# Altium integrated library Analog Devices Data Converters Analog-to-Digital Converters.IntLib: 2400 symbols (part 317 of 338)
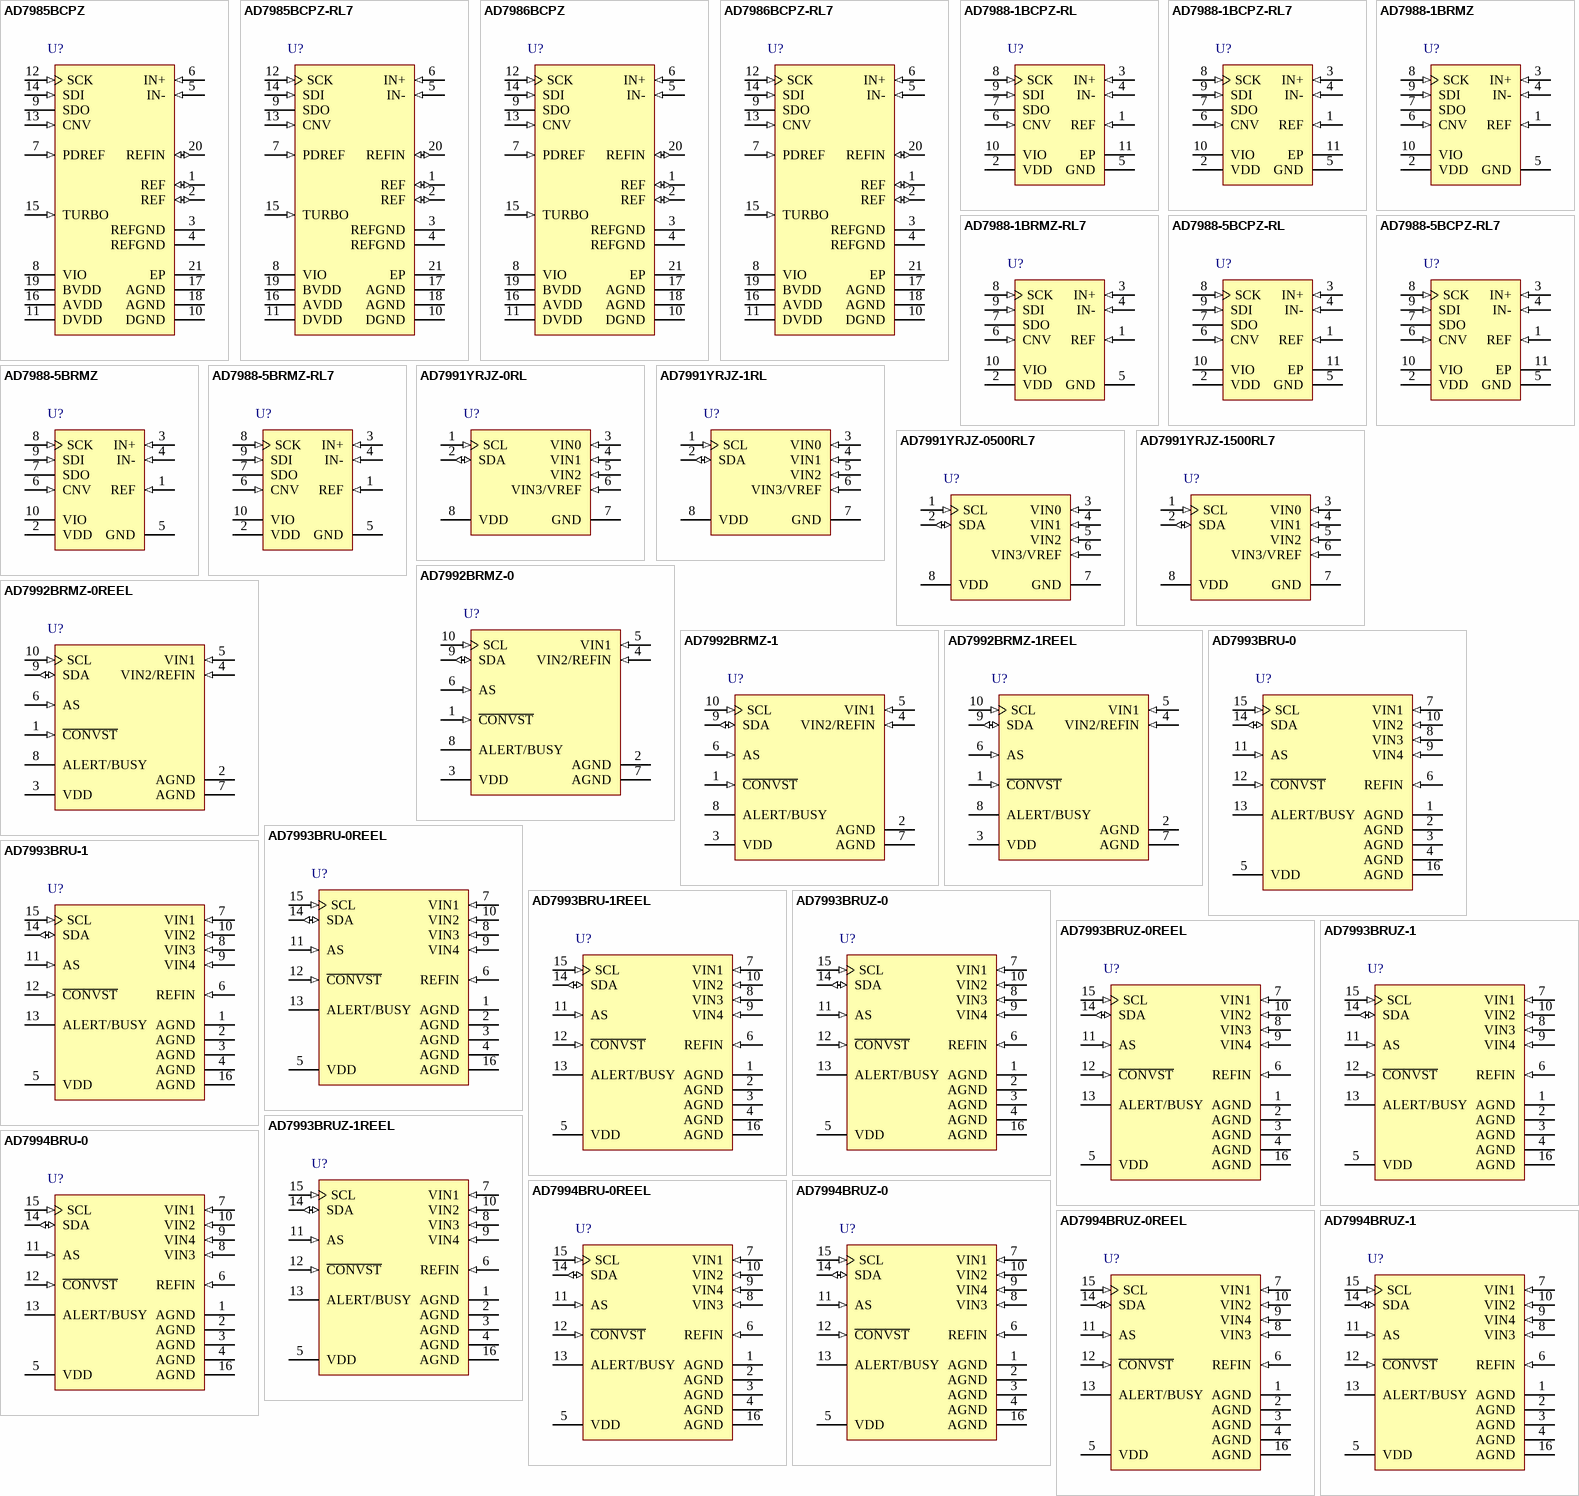
[diagram p328: symbols AD7985BCPZ to AD7994BRUZ-1]

## AD7993BRUZ-1
designator U?
Quad 10-Bit Analog-to-Digital Converter with I2C / Serial 2-Wire, Serial Interface, 188KSPS, -40 to +125 degC, RU-16, Pb-Free, Tube; Part Number: AD7993; Manufacturer: Analog Devices; Resolution (Bits): 10; Channels: 4; Throughput Rate (SPS): 188K; Interface: I2C/Ser 2-Wire, Ser; DatasheetVersion: Rev.0; PackageVersion: Nov-2002; PackageReference: RU-16; PackageDescription: 16-Lead Thin Shrink Small Outline Package [TSSOP]; RoHS: Y; Packing: Tube; Mounting Technology: Surface Mount; Code_JEDEC: MO-153-AB; ComponentLink1Description: Manufacturer URL; ComponentLink1URL: http://www.analog.com/en/index.html; ComponentLink2Description: Datasheet; ComponentLink2URL: http://www.analog.com/static/imported-files/data_sheets/AD7993_7994.pdf; ComponentLink3Description: Package Specification; ComponentLink3URL: http://www.analog.com/static/imported-files/packages/36244347913743854010197452789RU16.pdf; ComponentLink4Description: Product URL; ComponentLink4URL: http://www.analog.com/en/analog-to-digital-converters/ad-converters/ad7993/products/product.html
footprint RU-16_N (TSOP, 16-Leads, Body 5x4.4mm, Pitch 0.65mm, IPC Medium Density)
footprint RU-16_L (TSOP, 16-Leads, Body 5x4.4mm, Pitch 0.65mm, IPC High Density)
footprint RU-16_M (TSOP, 16-Leads, Body 5x4.4mm, Pitch 0.65mm, IPC Low Density)
pins: 1 AGND (power) "Analog Ground. Ground reference point for all circuitry on the AD7993/AD7994. All analog input signals should be referred to this AGND voltage.", 2 AGND (power) "Analog Ground. Ground reference point for all circuitry on the AD7993/AD7994. All analog input signals should be referred to this AGND voltage.", 3 AGND (power) "Analog Ground. Ground reference point for all circuitry on the AD7993/AD7994. All analog input signals should be referred to this AGND voltage.", 4 AGND (power) "Analog Ground. Ground reference point for all circuitry on the AD7993/AD7994. All analog input signals should be referred to this AGND voltage.", 5 VDD (power) "Power Supply Input. The VDD range for the AD7993/AD7994 is from 2.7 V to 5.5 V.", 6 REFIN (in) "Voltage Reference Input. The external reference for the AD7993/AD7994 should be applied to this input pin. The voltage range for the external reference is 1.2 V to VDD. A 0.1 uF and 1 uF capacitor should be placed between (See Datasheet)", 7 VIN1 (in) "Analog Input 1. Single-ended analog input channel. The input range is 0 V to REFIN.", 8 VIN3 (in) "Analog Input 3. Single-ended analog input channel. The input range is 0 V to REFIN.", 9 VIN4 (in) "Analog Input 4. Single-ended analog input channel. The input range is 0 V to REFIN.", 10 VIN2 (in) "Analog Input 2. Single-ended analog input channel. The input range is 0 V to REFIN.", 11 AS (in) "Logic Input. Address select input that selects one of three I2C addresses for the AD7993/AD7994, as shown in Table 6. The device address depends on the voltage applied to this pin.", 12 ~{CONVST} (in) "Logic Input Signal/Convert Start Signal. This is an edge-triggered logic input. The rising edge of this signal powers up the part. The power-up time for the part is 1 us. The falling edge of C\O\N\V\S\T\ places the (See Datasheet)", 13 ALERT/BUSY (oc) "Digital Output, Selectable as an ALERT or BUSY Output Function. When configured as an ALERT, this pin acts as an out-of-range indicator and, if enabled, becomes active when the conversion result violates the DATAHIGH or (See Datasheet)", 14 SDA (io) "Digital I/O. Serial bus bidirectional data. Open-drain output. External pull-up resistor required.", 15 SCL (in) "Digital Input. Serial bus clock. External pull-up resistor required.", 16 AGND (power) "Analog Ground. Ground reference point for all circuitry on the AD7993/AD7994. All analog input signals should be referred to this AGND voltage."

## AD7993BRUZ-1REEL
designator U?
Quad 10-Bit Analog-to-Digital Converter with I2C / Serial 2-Wire, Serial Interface, 188KSPS, -40 to +125 degC, RU-16, Pb-Free, Reel; Part Number: AD7993; Manufacturer: Analog Devices; Resolution (Bits): 10; Channels: 4; Throughput Rate (SPS): 188K; Interface: I2C/Ser 2-Wire, Ser; DatasheetVersion: Rev.0; PackageVersion: Nov-2002; PackageReference: RU-16; PackageDescription: 16-Lead Thin Shrink Small Outline Package [TSSOP]; RoHS: Y; Packing: Reel; Mounting Technology: Surface Mount; Code_JEDEC: MO-153-AB; ComponentLink1Description: Manufacturer URL; ComponentLink1URL: http://www.analog.com/en/index.html; ComponentLink2Description: Datasheet; ComponentLink2URL: http://www.analog.com/static/imported-files/data_sheets/AD7993_7994.pdf; ComponentLink3Description: Package Specification; ComponentLink3URL: http://www.analog.com/static/imported-files/packages/36244347913743854010197452789RU16.pdf; ComponentLink4Description: Product URL; ComponentLink4URL: http://www.analog.com/en/analog-to-digital-converters/ad-converters/ad7993/products/product.html
footprint RU-16_N (TSOP, 16-Leads, Body 5x4.4mm, Pitch 0.65mm, IPC Medium Density)
footprint RU-16_L (TSOP, 16-Leads, Body 5x4.4mm, Pitch 0.65mm, IPC High Density)
footprint RU-16_M (TSOP, 16-Leads, Body 5x4.4mm, Pitch 0.65mm, IPC Low Density)
pins: 1 AGND (power) "Analog Ground. Ground reference point for all circuitry on the AD7993/AD7994. All analog input signals should be referred to this AGND voltage.", 2 AGND (power) "Analog Ground. Ground reference point for all circuitry on the AD7993/AD7994. All analog input signals should be referred to this AGND voltage.", 3 AGND (power) "Analog Ground. Ground reference point for all circuitry on the AD7993/AD7994. All analog input signals should be referred to this AGND voltage.", 4 AGND (power) "Analog Ground. Ground reference point for all circuitry on the AD7993/AD7994. All analog input signals should be referred to this AGND voltage.", 5 VDD (power) "Power Supply Input. The VDD range for the AD7993/AD7994 is from 2.7 V to 5.5 V.", 6 REFIN (in) "Voltage Reference Input. The external reference for the AD7993/AD7994 should be applied to this input pin. The voltage range for the external reference is 1.2 V to VDD. A 0.1 uF and 1 uF capacitor should be placed between (See Datasheet)", 7 VIN1 (in) "Analog Input 1. Single-ended analog input channel. The input range is 0 V to REFIN.", 8 VIN3 (in) "Analog Input 3. Single-ended analog input channel. The input range is 0 V to REFIN.", 9 VIN4 (in) "Analog Input 4. Single-ended analog input channel. The input range is 0 V to REFIN.", 10 VIN2 (in) "Analog Input 2. Single-ended analog input channel. The input range is 0 V to REFIN.", 11 AS (in) "Logic Input. Address select input that selects one of three I2C addresses for the AD7993/AD7994, as shown in Table 6. The device address depends on the voltage applied to this pin.", 12 ~{CONVST} (in) "Logic Input Signal/Convert Start Signal. This is an edge-triggered logic input. The rising edge of this signal powers up the part. The power-up time for the part is 1 us. The falling edge of C\O\N\V\S\T\ places the (See Datasheet)", 13 ALERT/BUSY (oc) "Digital Output, Selectable as an ALERT or BUSY Output Function. When configured as an ALERT, this pin acts as an out-of-range indicator and, if enabled, becomes active when the conversion result violates the DATAHIGH or (See Datasheet)", 14 SDA (io) "Digital I/O. Serial bus bidirectional data. Open-drain output. External pull-up resistor required.", 15 SCL (in) "Digital Input. Serial bus clock. External pull-up resistor required.", 16 AGND (power) "Analog Ground. Ground reference point for all circuitry on the AD7993/AD7994. All analog input signals should be referred to this AGND voltage."

## AD7994BRU-0
designator U?
Quad 12-Bit Analog-to-Digital Converter with I2C/Serial 2-Wire, Serial Interface, 188KSPS, -40 to +125 degC, RU-16, Tube; Part Number: AD7994; Manufacturer: Analog Devices; Resolution (Bits): 12; Channels: 4; Throughput Rate (SPS): 188K; Interface: I2C/Ser 2-Wire, Ser; DatasheetVersion: Rev.0; PackageVersion: Nov-2002; PackageReference: RU-16; PackageDescription: 16-Lead Thin Shrink Small Outline Package [TSSOP]; RoHS: N; Packing: Tube; Mounting Technology: Surface Mount; Code_JEDEC: MO-153-AB; ComponentLink1Description: Manufacturer URL; ComponentLink1URL: http://www.analog.com/en/index.html; ComponentLink2Description: Datasheet; ComponentLink2URL: http://www.analog.com/static/imported-files/data_sheets/AD7993_7994.pdf; ComponentLink3Description: Package Specification; ComponentLink3URL: http://www.analog.com/static/imported-files/packages/36244347913743854010197452789RU16.pdf; ComponentLink4Description: Product URL; ComponentLink4URL: http://www.analog.com/en/analog-to-digital-converters/ad-converters/ad7994/products/product.html
footprint RU-16_N (TSOP, 16-Leads, Body 5x4.4mm, Pitch 0.65mm, IPC Medium Density)
footprint RU-16_L (TSOP, 16-Leads, Body 5x4.4mm, Pitch 0.65mm, IPC High Density)
footprint RU-16_M (TSOP, 16-Leads, Body 5x4.4mm, Pitch 0.65mm, IPC Low Density)
pins: 1 AGND (power) "Analog Ground. Ground reference point for all circuitry on the AD7993/AD7994. All analog input signals should be referred to this AGND voltage.", 2 AGND (power) "Analog Ground. Ground reference point for all circuitry on the AD7993/AD7994. All analog input signals should be referred to this AGND voltage.", 3 AGND (power) "Analog Ground. Ground reference point for all circuitry on the AD7993/AD7994. All analog input signals should be referred to this AGND voltage.", 4 AGND (power) "Analog Ground. Ground reference point for all circuitry on the AD7993/AD7994. All analog input signals should be referred to this AGND voltage.", 5 VDD (power) "Power Supply Input. The VDD range for the AD7993/AD7994 is from 2.7 V to 5.5 V.", 6 REFIN (in) "Voltage Reference Input. The external reference for the AD7993/AD7994 should be applied to this input pin.  The voltage range for the external reference is 1.2 V to VDD. A 0.1 µF and 1 µF capacitor should be placed  between (See Datasheet)", 7 VIN1 (in) "Analog Input 1. Single-ended analog input channel. The input range is 0 V to REFIN.", 8 VIN3 (in) "Analog Input 3. Single-ended analog input channel. The input range is 0 V to REFIN.", 9 VIN4 (in) "Analog Input 4. Single-ended analog input channel. The input range is 0 V to REFIN.", 10 VIN2 (in) "Analog Input 2. Single-ended analog input channel. The input range is 0 V to REFIN.", 11 AS (in) "Logic Input. Address select input that selects one of three I2C addresses for the AD7993/AD7994, as shown in Table 6. The device address depends on the voltage applied to this pin.", 12 ~{CONVST} (in) "Logic Input Signal/Convert Start Signal. This is an edge-triggered logic input. The rising edge of this signal powers up the part. The power-up time for the part is 1 us. The falling edge of C\O\N\V\S\T\ places the (See Datasheet)", 13 ALERT/BUSY (oc) "Digital Output, Selectable as an ALERT or BUSY Output Function. When configured as an ALERT, this pin acts as an out-of-range indicator and, if enabled, becomes active when the conversion result violates the DATAHIGH or (See Datasheet)", 14 SDA (io) "Digital I/O. Serial bus bidirectional data. Open-drain output. External pull-up resistor required.", 15 SCL (in) "Digital Input. Serial bus clock. External pull-up resistor required.", 16 AGND (power) "Analog Ground. Ground reference point for all circuitry on the AD7993/AD7994. All analog input signals should be referred to this AGND voltage."

## AD7994BRU-0REEL
designator U?
Quad 12-Bit Analog-to-Digital Converter with I2C/Serial 2-Wire, Serial Interface, 188KSPS, -40 to +125 degC, RU-16, Reel; Part Number: AD7994; Manufacturer: Analog Devices; Resolution (Bits): 12; Channels: 4; Throughput Rate (SPS): 188K; Interface: I2C/Ser 2-Wire, Ser; DatasheetVersion: Rev.0; PackageVersion: Nov-2002; PackageReference: RU-16; PackageDescription: 16-Lead Thin Shrink Small Outline Package [TSSOP]; RoHS: N; Packing: Reel; Mounting Technology: Surface Mount; Code_JEDEC: MO-153-AB; ComponentLink1Description: Manufacturer URL; ComponentLink1URL: http://www.analog.com/en/index.html; ComponentLink2Description: Datasheet; ComponentLink2URL: http://www.analog.com/static/imported-files/data_sheets/AD7993_7994.pdf; ComponentLink3Description: Package Specification; ComponentLink3URL: http://www.analog.com/static/imported-files/packages/36244347913743854010197452789RU16.pdf; ComponentLink4Description: Product URL; ComponentLink4URL: http://www.analog.com/en/analog-to-digital-converters/ad-converters/ad7994/products/product.html
footprint RU-16_N (TSOP, 16-Leads, Body 5x4.4mm, Pitch 0.65mm, IPC Medium Density)
footprint RU-16_L (TSOP, 16-Leads, Body 5x4.4mm, Pitch 0.65mm, IPC High Density)
footprint RU-16_M (TSOP, 16-Leads, Body 5x4.4mm, Pitch 0.65mm, IPC Low Density)
pins: 1 AGND (power) "Analog Ground. Ground reference point for all circuitry on the AD7993/AD7994. All analog input signals should be referred to this AGND voltage.", 2 AGND (power) "Analog Ground. Ground reference point for all circuitry on the AD7993/AD7994. All analog input signals should be referred to this AGND voltage.", 3 AGND (power) "Analog Ground. Ground reference point for all circuitry on the AD7993/AD7994. All analog input signals should be referred to this AGND voltage.", 4 AGND (power) "Analog Ground. Ground reference point for all circuitry on the AD7993/AD7994. All analog input signals should be referred to this AGND voltage.", 5 VDD (power) "Power Supply Input. The VDD range for the AD7993/AD7994 is from 2.7 V to 5.5 V.", 6 REFIN (in) "Voltage Reference Input. The external reference for the AD7993/AD7994 should be applied to this input pin.  The voltage range for the external reference is 1.2 V to VDD. A 0.1 µF and 1 µF capacitor should be placed  between (See Datasheet)", 7 VIN1 (in) "Analog Input 1. Single-ended analog input channel. The input range is 0 V to REFIN.", 8 VIN3 (in) "Analog Input 3. Single-ended analog input channel. The input range is 0 V to REFIN.", 9 VIN4 (in) "Analog Input 4. Single-ended analog input channel. The input range is 0 V to REFIN.", 10 VIN2 (in) "Analog Input 2. Single-ended analog input channel. The input range is 0 V to REFIN.", 11 AS (in) "Logic Input. Address select input that selects one of three I2C addresses for the AD7993/AD7994, as shown in Table 6. The device address depends on the voltage applied to this pin.", 12 ~{CONVST} (in) "Logic Input Signal/Convert Start Signal. This is an edge-triggered logic input. The rising edge of this signal powers up the part. The power-up time for the part is 1 us. The falling edge of C\O\N\V\S\T\ places the (See Datasheet)", 13 ALERT/BUSY (oc) "Digital Output, Selectable as an ALERT or BUSY Output Function. When configured as an ALERT, this pin acts as an out-of-range indicator and, if enabled, becomes active when the conversion result violates the DATAHIGH or (See Datasheet)", 14 SDA (io) "Digital I/O. Serial bus bidirectional data. Open-drain output. External pull-up resistor required.", 15 SCL (in) "Digital Input. Serial bus clock. External pull-up resistor required.", 16 AGND (power) "Analog Ground. Ground reference point for all circuitry on the AD7993/AD7994. All analog input signals should be referred to this AGND voltage."

## AD7994BRUZ-0
designator U?
Quad 12-Bit Analog-to-Digital Converter with I2C/Serial 2-Wire, Serial Interface, 188KSPS, -40 to +125 degC, RU-16, Pb-Free, Tube; Part Number: AD7994; Manufacturer: Analog Devices; Resolution (Bits): 12; Channels: 4; Throughput Rate (SPS): 188K; Interface: I2C/Ser 2-Wire, Ser; DatasheetVersion: Rev.0; PackageVersion: Nov-2002; PackageReference: RU-16; PackageDescription: 16-Lead Thin Shrink Small Outline Package [TSSOP]; RoHS: Y; Packing: Tube; Mounting Technology: Surface Mount; Code_JEDEC: MO-153-AB; ComponentLink1Description: Manufacturer URL; ComponentLink1URL: http://www.analog.com/en/index.html; ComponentLink2Description: Datasheet; ComponentLink2URL: http://www.analog.com/static/imported-files/data_sheets/AD7993_7994.pdf; ComponentLink3Description: Package Specification; ComponentLink3URL: http://www.analog.com/static/imported-files/packages/36244347913743854010197452789RU16.pdf; ComponentLink4Description: Product URL; ComponentLink4URL: http://www.analog.com/en/analog-to-digital-converters/ad-converters/ad7994/products/product.html
footprint RU-16_N (TSOP, 16-Leads, Body 5x4.4mm, Pitch 0.65mm, IPC Medium Density)
footprint RU-16_L (TSOP, 16-Leads, Body 5x4.4mm, Pitch 0.65mm, IPC High Density)
footprint RU-16_M (TSOP, 16-Leads, Body 5x4.4mm, Pitch 0.65mm, IPC Low Density)
pins: 1 AGND (power) "Analog Ground. Ground reference point for all circuitry on the AD7993/AD7994. All analog input signals should be referred to this AGND voltage.", 2 AGND (power) "Analog Ground. Ground reference point for all circuitry on the AD7993/AD7994. All analog input signals should be referred to this AGND voltage.", 3 AGND (power) "Analog Ground. Ground reference point for all circuitry on the AD7993/AD7994. All analog input signals should be referred to this AGND voltage.", 4 AGND (power) "Analog Ground. Ground reference point for all circuitry on the AD7993/AD7994. All analog input signals should be referred to this AGND voltage.", 5 VDD (power) "Power Supply Input. The VDD range for the AD7993/AD7994 is from 2.7 V to 5.5 V.", 6 REFIN (in) "Voltage Reference Input. The external reference for the AD7993/AD7994 should be applied to this input pin.  The voltage range for the external reference is 1.2 V to VDD. A 0.1 µF and 1 µF capacitor should be placed  between (See Datasheet)", 7 VIN1 (in) "Analog Input 1. Single-ended analog input channel. The input range is 0 V to REFIN.", 8 VIN3 (in) "Analog Input 3. Single-ended analog input channel. The input range is 0 V to REFIN.", 9 VIN4 (in) "Analog Input 4. Single-ended analog input channel. The input range is 0 V to REFIN.", 10 VIN2 (in) "Analog Input 2. Single-ended analog input channel. The input range is 0 V to REFIN.", 11 AS (in) "Logic Input. Address select input that selects one of three I2C addresses for the AD7993/AD7994, as shown in Table 6. The device address depends on the voltage applied to this pin.", 12 ~{CONVST} (in) "Logic Input Signal/Convert Start Signal. This is an edge-triggered logic input. The rising edge of this signal powers up the part. The power-up time for the part is 1 us. The falling edge of C\O\N\V\S\T\ places the (See Datasheet)", 13 ALERT/BUSY (oc) "Digital Output, Selectable as an ALERT or BUSY Output Function. When configured as an ALERT, this pin acts as an out-of-range indicator and, if enabled, becomes active when the conversion result violates the DATAHIGH or (See Datasheet)", 14 SDA (io) "Digital I/O. Serial bus bidirectional data. Open-drain output. External pull-up resistor required.", 15 SCL (in) "Digital Input. Serial bus clock. External pull-up resistor required.", 16 AGND (power) "Analog Ground. Ground reference point for all circuitry on the AD7993/AD7994. All analog input signals should be referred to this AGND voltage."

## AD7994BRUZ-0REEL
designator U?
Quad 12-Bit Analog-to-Digital Converter with I2C/Serial 2-Wire, Serial Interface, 188KSPS, -40 to +125 degC, RU-16, Pb-Free, Reel; Part Number: AD7994; Manufacturer: Analog Devices; Resolution (Bits): 12; Channels: 4; Throughput Rate (SPS): 188K; Interface: I2C/Ser 2-Wire, Ser; DatasheetVersion: Rev.0; PackageVersion: Nov-2002; PackageReference: RU-16; PackageDescription: 16-Lead Thin Shrink Small Outline Package [TSSOP]; RoHS: Y; Packing: Reel; Mounting Technology: Surface Mount; Code_JEDEC: MO-153-AB; ComponentLink1Description: Manufacturer URL; ComponentLink1URL: http://www.analog.com/en/index.html; ComponentLink2Description: Datasheet; ComponentLink2URL: http://www.analog.com/static/imported-files/data_sheets/AD7993_7994.pdf; ComponentLink3Description: Package Specification; ComponentLink3URL: http://www.analog.com/static/imported-files/packages/36244347913743854010197452789RU16.pdf; ComponentLink4Description: Product URL; ComponentLink4URL: http://www.analog.com/en/analog-to-digital-converters/ad-converters/ad7994/products/product.html
footprint RU-16_N (TSOP, 16-Leads, Body 5x4.4mm, Pitch 0.65mm, IPC Medium Density)
footprint RU-16_L (TSOP, 16-Leads, Body 5x4.4mm, Pitch 0.65mm, IPC High Density)
footprint RU-16_M (TSOP, 16-Leads, Body 5x4.4mm, Pitch 0.65mm, IPC Low Density)
pins: 1 AGND (power) "Analog Ground. Ground reference point for all circuitry on the AD7993/AD7994. All analog input signals should be referred to this AGND voltage.", 2 AGND (power) "Analog Ground. Ground reference point for all circuitry on the AD7993/AD7994. All analog input signals should be referred to this AGND voltage.", 3 AGND (power) "Analog Ground. Ground reference point for all circuitry on the AD7993/AD7994. All analog input signals should be referred to this AGND voltage.", 4 AGND (power) "Analog Ground. Ground reference point for all circuitry on the AD7993/AD7994. All analog input signals should be referred to this AGND voltage.", 5 VDD (power) "Power Supply Input. The VDD range for the AD7993/AD7994 is from 2.7 V to 5.5 V.", 6 REFIN (in) "Voltage Reference Input. The external reference for the AD7993/AD7994 should be applied to this input pin.  The voltage range for the external reference is 1.2 V to VDD. A 0.1 µF and 1 µF capacitor should be placed  between (See Datasheet)", 7 VIN1 (in) "Analog Input 1. Single-ended analog input channel. The input range is 0 V to REFIN.", 8 VIN3 (in) "Analog Input 3. Single-ended analog input channel. The input range is 0 V to REFIN.", 9 VIN4 (in) "Analog Input 4. Single-ended analog input channel. The input range is 0 V to REFIN.", 10 VIN2 (in) "Analog Input 2. Single-ended analog input channel. The input range is 0 V to REFIN.", 11 AS (in) "Logic Input. Address select input that selects one of three I2C addresses for the AD7993/AD7994, as shown in Table 6. The device address depends on the voltage applied to this pin.", 12 ~{CONVST} (in) "Logic Input Signal/Convert Start Signal. This is an edge-triggered logic input. The rising edge of this signal powers up the part. The power-up time for the part is 1 us. The falling edge of C\O\N\V\S\T\ places the (See Datasheet)", 13 ALERT/BUSY (oc) "Digital Output, Selectable as an ALERT or BUSY Output Function. When configured as an ALERT, this pin acts as an out-of-range indicator and, if enabled, becomes active when the conversion result violates the DATAHIGH or (See Datasheet)", 14 SDA (io) "Digital I/O. Serial bus bidirectional data. Open-drain output. External pull-up resistor required.", 15 SCL (in) "Digital Input. Serial bus clock. External pull-up resistor required.", 16 AGND (power) "Analog Ground. Ground reference point for all circuitry on the AD7993/AD7994. All analog input signals should be referred to this AGND voltage."

## AD7994BRUZ-1
designator U?
Quad 12-Bit Analog-to-Digital Converter with I2C/Serial 2-Wire, Serial Interface, 188KSPS, -40 to +125 degC, RU-16, Pb-Free, Tube; Part Number: AD7994; Manufacturer: Analog Devices; Resolution (Bits): 12; Channels: 4; Throughput Rate (SPS): 188K; Interface: I2C/Ser 2-Wire, Ser; DatasheetVersion: Rev.0; PackageVersion: Nov-2002; PackageReference: RU-16; PackageDescription: 16-Lead Thin Shrink Small Outline Package [TSSOP]; RoHS: Y; Packing: Tube; Mounting Technology: Surface Mount; Code_JEDEC: MO-153-AB; ComponentLink1Description: Manufacturer URL; ComponentLink1URL: http://www.analog.com/en/index.html; ComponentLink2Description: Datasheet; ComponentLink2URL: http://www.analog.com/static/imported-files/data_sheets/AD7993_7994.pdf; ComponentLink3Description: Package Specification; ComponentLink3URL: http://www.analog.com/static/imported-files/packages/36244347913743854010197452789RU16.pdf; ComponentLink4Description: Product URL; ComponentLink4URL: http://www.analog.com/en/analog-to-digital-converters/ad-converters/ad7994/products/product.html
footprint RU-16_N (TSOP, 16-Leads, Body 5x4.4mm, Pitch 0.65mm, IPC Medium Density)
footprint RU-16_L (TSOP, 16-Leads, Body 5x4.4mm, Pitch 0.65mm, IPC High Density)
footprint RU-16_M (TSOP, 16-Leads, Body 5x4.4mm, Pitch 0.65mm, IPC Low Density)
pins: 1 AGND (power) "Analog Ground. Ground reference point for all circuitry on the AD7993/AD7994. All analog input signals should be referred to this AGND voltage.", 2 AGND (power) "Analog Ground. Ground reference point for all circuitry on the AD7993/AD7994. All analog input signals should be referred to this AGND voltage.", 3 AGND (power) "Analog Ground. Ground reference point for all circuitry on the AD7993/AD7994. All analog input signals should be referred to this AGND voltage.", 4 AGND (power) "Analog Ground. Ground reference point for all circuitry on the AD7993/AD7994. All analog input signals should be referred to this AGND voltage.", 5 VDD (power) "Power Supply Input. The VDD range for the AD7993/AD7994 is from 2.7 V to 5.5 V.", 6 REFIN (in) "Voltage Reference Input. The external reference for the AD7993/AD7994 should be applied to this input pin.  The voltage range for the external reference is 1.2 V to VDD. A 0.1 µF and 1 µF capacitor should be placed  between (See Datasheet)", 7 VIN1 (in) "Analog Input 1. Single-ended analog input channel. The input range is 0 V to REFIN.", 8 VIN3 (in) "Analog Input 3. Single-ended analog input channel. The input range is 0 V to REFIN.", 9 VIN4 (in) "Analog Input 4. Single-ended analog input channel. The input range is 0 V to REFIN.", 10 VIN2 (in) "Analog Input 2. Single-ended analog input channel. The input range is 0 V to REFIN.", 11 AS (in) "Logic Input. Address select input that selects one of three I2C addresses for the AD7993/AD7994, as shown in Table 6. The device address depends on the voltage applied to this pin.", 12 ~{CONVST} (in) "Logic Input Signal/Convert Start Signal. This is an edge-triggered logic input. The rising edge of this signal powers up the part. The power-up time for the part is 1 us. The falling edge of C\O\N\V\S\T\ places the (See Datasheet)", 13 ALERT/BUSY (oc) "Digital Output, Selectable as an ALERT or BUSY Output Function. When configured as an ALERT, this pin acts as an out-of-range indicator and, if enabled, becomes active when the conversion result violates the DATAHIGH or (See Datasheet)", 14 SDA (io) "Digital I/O. Serial bus bidirectional data. Open-drain output. External pull-up resistor required.", 15 SCL (in) "Digital Input. Serial bus clock. External pull-up resistor required.", 16 AGND (power) "Analog Ground. Ground reference point for all circuitry on the AD7993/AD7994. All analog input signals should be referred to this AGND voltage."

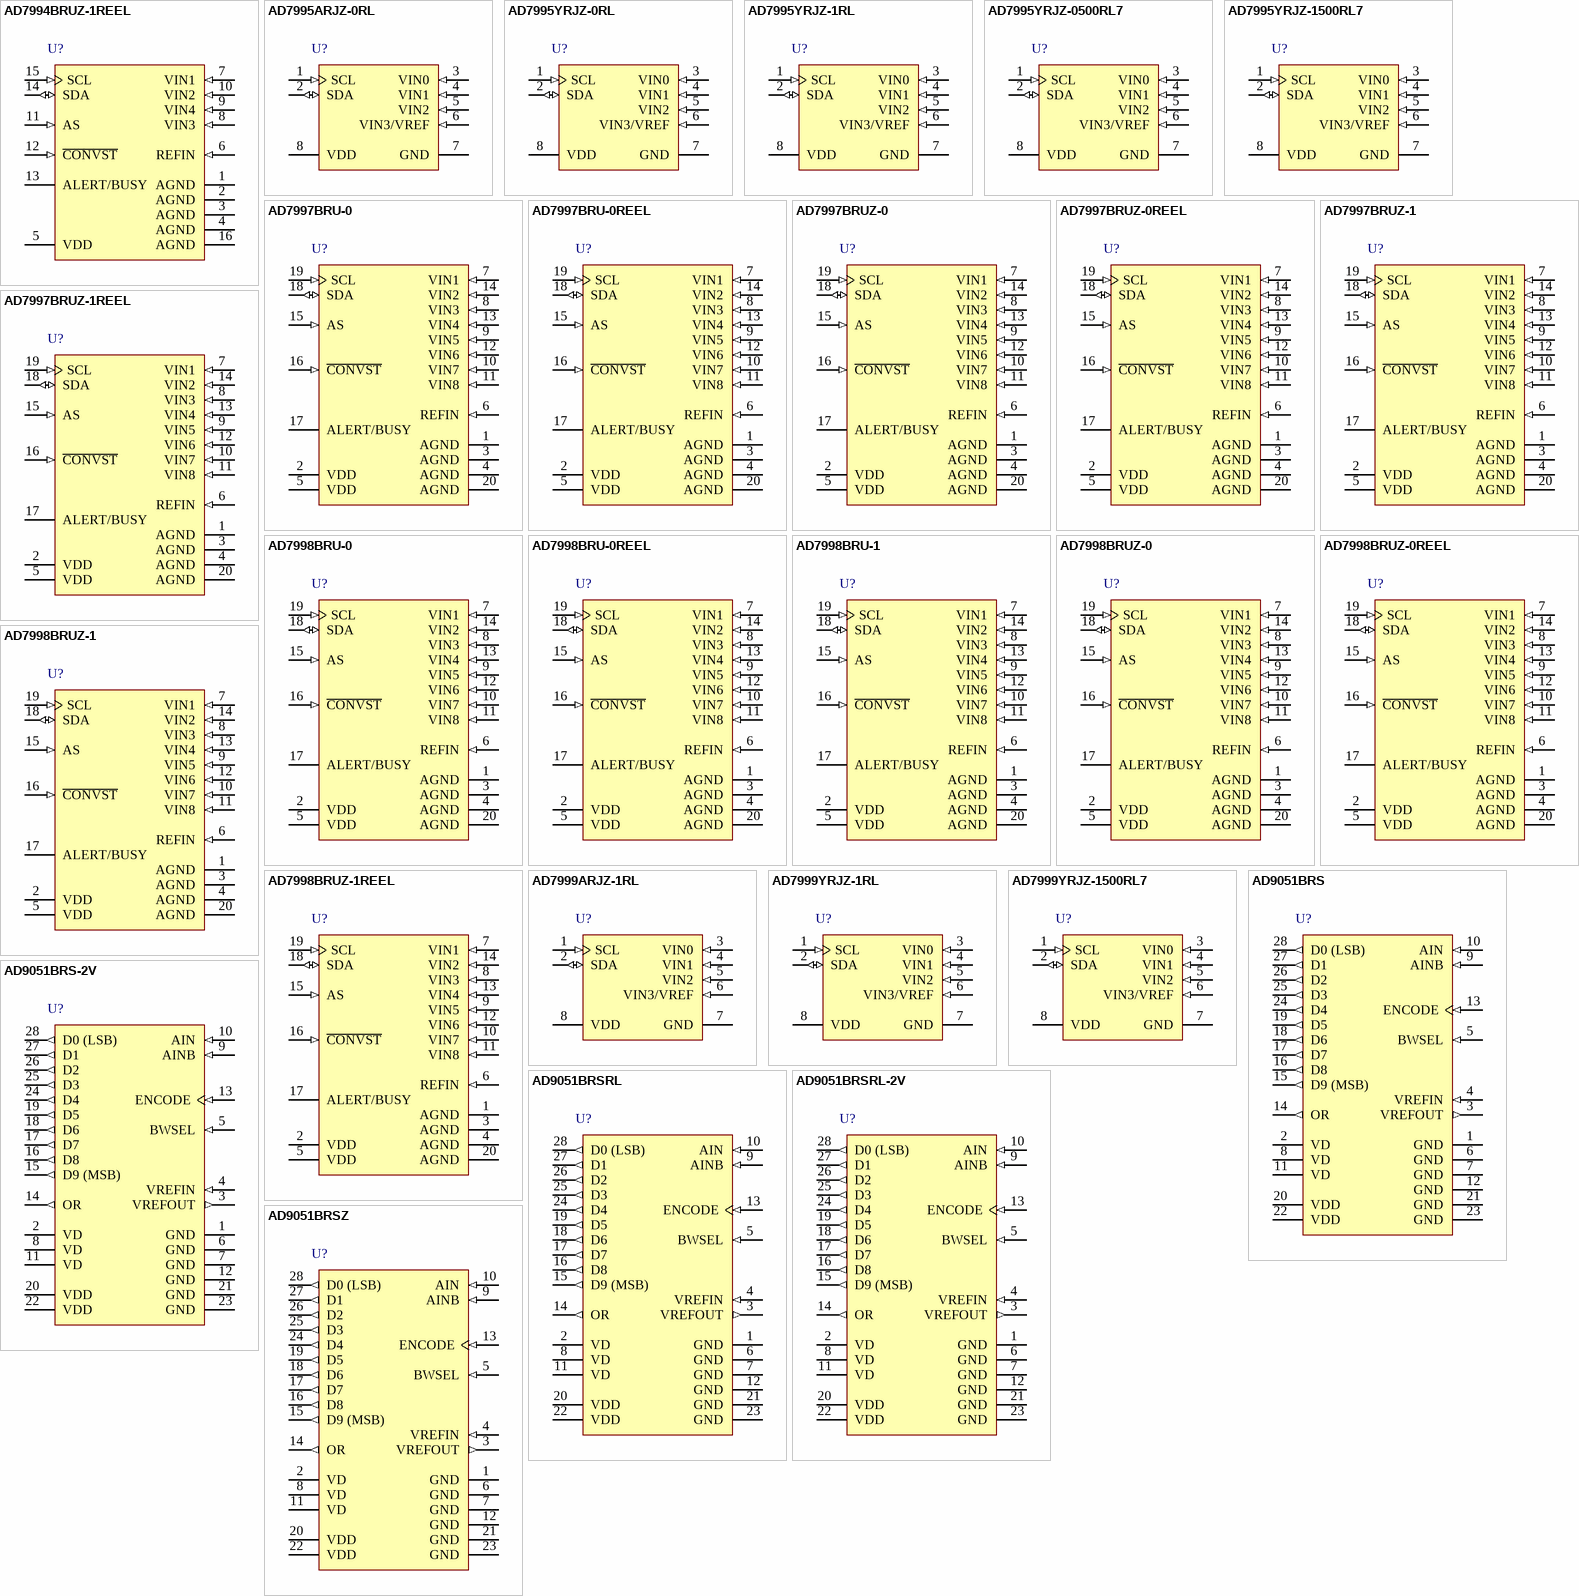
[diagram p95: symbols AD7994BRUZ-1REEL to AD9051BRSZ]

## AD7994BRUZ-1REEL
designator U?
Quad 12-Bit Analog-to-Digital Converter with I2C/Serial 2-Wire, Serial Interface, 188KSPS, -40 to +125 degC, RU-16, Pb-Free, Reel; Part Number: AD7994; Manufacturer: Analog Devices; Resolution (Bits): 12; Channels: 4; Throughput Rate (SPS): 188K; Interface: I2C/Ser 2-Wire, Ser; DatasheetVersion: Rev.0; PackageVersion: Nov-2002; PackageReference: RU-16; PackageDescription: 16-Lead Thin Shrink Small Outline Package [TSSOP]; RoHS: Y; Packing: Reel; Mounting Technology: Surface Mount; Code_JEDEC: MO-153-AB; ComponentLink1Description: Manufacturer URL; ComponentLink1URL: http://www.analog.com/en/index.html; ComponentLink2Description: Datasheet; ComponentLink2URL: http://www.analog.com/static/imported-files/data_sheets/AD7993_7994.pdf; ComponentLink3Description: Package Specification; ComponentLink3URL: http://www.analog.com/static/imported-files/packages/36244347913743854010197452789RU16.pdf; ComponentLink4Description: Product URL; ComponentLink4URL: http://www.analog.com/en/analog-to-digital-converters/ad-converters/ad7994/products/product.html
footprint RU-16_N (TSOP, 16-Leads, Body 5x4.4mm, Pitch 0.65mm, IPC Medium Density)
footprint RU-16_L (TSOP, 16-Leads, Body 5x4.4mm, Pitch 0.65mm, IPC High Density)
footprint RU-16_M (TSOP, 16-Leads, Body 5x4.4mm, Pitch 0.65mm, IPC Low Density)
pins: 1 AGND (power) "Analog Ground. Ground reference point for all circuitry on the AD7993/AD7994. All analog input signals should be referred to this AGND voltage.", 2 AGND (power) "Analog Ground. Ground reference point for all circuitry on the AD7993/AD7994. All analog input signals should be referred to this AGND voltage.", 3 AGND (power) "Analog Ground. Ground reference point for all circuitry on the AD7993/AD7994. All analog input signals should be referred to this AGND voltage.", 4 AGND (power) "Analog Ground. Ground reference point for all circuitry on the AD7993/AD7994. All analog input signals should be referred to this AGND voltage.", 5 VDD (power) "Power Supply Input. The VDD range for the AD7993/AD7994 is from 2.7 V to 5.5 V.", 6 REFIN (in) "Voltage Reference Input. The external reference for the AD7993/AD7994 should be applied to this input pin.  The voltage range for the external reference is 1.2 V to VDD. A 0.1 µF and 1 µF capacitor should be placed  between (See Datasheet)", 7 VIN1 (in) "Analog Input 1. Single-ended analog input channel. The input range is 0 V to REFIN.", 8 VIN3 (in) "Analog Input 3. Single-ended analog input channel. The input range is 0 V to REFIN.", 9 VIN4 (in) "Analog Input 4. Single-ended analog input channel. The input range is 0 V to REFIN.", 10 VIN2 (in) "Analog Input 2. Single-ended analog input channel. The input range is 0 V to REFIN.", 11 AS (in) "Logic Input. Address select input that selects one of three I2C addresses for the AD7993/AD7994, as shown in Table 6. The device address depends on the voltage applied to this pin.", 12 ~{CONVST} (in) "Logic Input Signal/Convert Start Signal. This is an edge-triggered logic input. The rising edge of this signal powers up the part. The power-up time for the part is 1 us. The falling edge of C\O\N\V\S\T\ places the (See Datasheet)", 13 ALERT/BUSY (oc) "Digital Output, Selectable as an ALERT or BUSY Output Function. When configured as an ALERT, this pin acts as an out-of-range indicator and, if enabled, becomes active when the conversion result violates the DATAHIGH or (See Datasheet)", 14 SDA (io) "Digital I/O. Serial bus bidirectional data. Open-drain output. External pull-up resistor required.", 15 SCL (in) "Digital Input. Serial bus clock. External pull-up resistor required.", 16 AGND (power) "Analog Ground. Ground reference point for all circuitry on the AD7993/AD7994. All analog input signals should be referred to this AGND voltage."

## AD7995ARJZ-0RL
designator U?
Quad 10-Bit Analog-to-Digital Converter with I2C, Serial 2-Wire Interface, 140KSPS, -40 to +125 degC, RJ-8, Pb-Free, Reel; Part Number: AD7995; Manufacturer: Analog Devices; Resolution (Bits): 10; Channels: 4; Throughput Rate (SPS): 140K; Interface: I2C/Ser 2-Wire; DatasheetVersion: Rev.B; PackageVersion: 121608-A; PackageReference: RJ-8; PackageDescription: 8-Lead Thin Small Outline Transistor Package [SOT-23]; RoHS: Y; Packing: Reel; Mounting Technology: Surface Mount; Code_JEDEC: MO-178-BA; ComponentLink1Description: Manufacturer URL; ComponentLink1URL: http://www.analog.com/en/index.html; ComponentLink2Description: Datasheet; ComponentLink2URL: http://www.analog.com/static/imported-files/data_sheets/AD7991_7995_7999.pdf; ComponentLink3Description: Package Specification; ComponentLink3URL: http://www.analog.com/static/imported-files/packages/PKG_PDF/SOT-23(RJ)/RJ_8.pdf; ComponentLink4Description: Product URL; ComponentLink4URL: http://www.analog.com/en/analog-to-digital-converters/ad-converters/ad7995/products/product.html
footprint RJ-8_N (SOP, 8-Leads, Body 2.9x1.6mm, Pitch 0.65mm, IPC Medium Density)
footprint RJ-8_L (SOP, 8-Leads, Body 2.9x1.6mm, Pitch 0.65mm, IPC High Density)
footprint RJ-8_M (SOP, 8-Leads, Body 2.9x1.6mm, Pitch 0.65mm, IPC Low Density)
pins: 1 SCL (in) "Digital Input. Serial bus clock. External pull-up resistor required.", 2 SDA (io) "Digital I/O. Serial bus bidirectional data. Open-drain output. External pull-up resistor required.", 3 VIN0 (in) "Analog Input 1. Single-ended analog input channel. The input range is 0 V to VREF.", 4 VIN1 (in) "Analog Input 2. Single-ended analog input channel. The input range is 0 V to VREF.", 5 VIN2 (in) "Analog Input 3. Single-ended analog input channel. The input range is 0 V to VREF.", 6 VIN3/VREF (in) "Analog Input 4. Single-ended analog input channel. The input range is 0 V to VREF. Can also be used to input an external VREF signal.", 7 GND (power) "Analog Ground. Ground reference point for all circuitry on the AD7991/AD7995/AD7999. All analog input signals should be referred to this AGND voltage.", 8 VDD (power) "Power Supply Input. The VDD range for the AD7991/AD7995/AD7999 is from 2.7 V to 5.5 V."

## AD7995YRJZ-0RL
designator U?
Quad 10-Bit Analog-to-Digital Converter with I2C, Serial 2-Wire Interface, 140KSPS, -40 to +125 degC, RJ-8, Pb-Free, Reel; Part Number: AD7995; Manufacturer: Analog Devices; Resolution (Bits): 10; Channels: 4; Throughput Rate (SPS): 140K; Interface: I2C/Ser 2-Wire; DatasheetVersion: Rev.B; PackageVersion: 121608-A; PackageReference: RJ-8; PackageDescription: 8-Lead Thin Small Outline Transistor Package [SOT-23]; RoHS: Y; Packing: Reel; Mounting Technology: Surface Mount; Code_JEDEC: MO-178-BA; ComponentLink1Description: Manufacturer URL; ComponentLink1URL: http://www.analog.com/en/index.html; ComponentLink2Description: Datasheet; ComponentLink2URL: http://www.analog.com/static/imported-files/data_sheets/AD7991_7995_7999.pdf; ComponentLink3Description: Package Specification; ComponentLink3URL: http://www.analog.com/static/imported-files/packages/PKG_PDF/SOT-23(RJ)/RJ_8.pdf; ComponentLink4Description: Product URL; ComponentLink4URL: http://www.analog.com/en/analog-to-digital-converters/ad-converters/ad7995/products/product.html
footprint RJ-8_N (SOP, 8-Leads, Body 2.9x1.6mm, Pitch 0.65mm, IPC Medium Density)
footprint RJ-8_L (SOP, 8-Leads, Body 2.9x1.6mm, Pitch 0.65mm, IPC High Density)
footprint RJ-8_M (SOP, 8-Leads, Body 2.9x1.6mm, Pitch 0.65mm, IPC Low Density)
pins: 1 SCL (in) "Digital Input. Serial bus clock. External pull-up resistor required.", 2 SDA (io) "Digital I/O. Serial bus bidirectional data. Open-drain output. External pull-up resistor required.", 3 VIN0 (in) "Analog Input 1. Single-ended analog input channel. The input range is 0 V to VREF.", 4 VIN1 (in) "Analog Input 2. Single-ended analog input channel. The input range is 0 V to VREF.", 5 VIN2 (in) "Analog Input 3. Single-ended analog input channel. The input range is 0 V to VREF.", 6 VIN3/VREF (in) "Analog Input 4. Single-ended analog input channel. The input range is 0 V to VREF. Can also be used to input an external VREF signal.", 7 GND (power) "Analog Ground. Ground reference point for all circuitry on the AD7991/AD7995/AD7999. All analog input signals should be referred to this AGND voltage.", 8 VDD (power) "Power Supply Input. The VDD range for the AD7991/AD7995/AD7999 is from 2.7 V to 5.5 V."

## AD7995YRJZ-1RL
designator U?
Quad 10-Bit Analog-to-Digital Converter with I2C, Serial 2-Wire Interface, 140KSPS, -40 to +125 degC, RJ-8, Pb-Free, Reel; Part Number: AD7995; Manufacturer: Analog Devices; Resolution (Bits): 10; Channels: 4; Throughput Rate (SPS): 140K; Interface: I2C/Ser 2-Wire; DatasheetVersion: Rev.B; PackageVersion: 121608-A; PackageReference: RJ-8; PackageDescription: 8-Lead Thin Small Outline Transistor Package [SOT-23]; RoHS: Y; Packing: Reel; Mounting Technology: Surface Mount; Code_JEDEC: MO-178-BA; ComponentLink1Description: Manufacturer URL; ComponentLink1URL: http://www.analog.com/en/index.html; ComponentLink2Description: Datasheet; ComponentLink2URL: http://www.analog.com/static/imported-files/data_sheets/AD7991_7995_7999.pdf; ComponentLink3Description: Package Specification; ComponentLink3URL: http://www.analog.com/static/imported-files/packages/PKG_PDF/SOT-23(RJ)/RJ_8.pdf; ComponentLink4Description: Product URL; ComponentLink4URL: http://www.analog.com/en/analog-to-digital-converters/ad-converters/ad7995/products/product.html
footprint RJ-8_N (SOP, 8-Leads, Body 2.9x1.6mm, Pitch 0.65mm, IPC Medium Density)
footprint RJ-8_L (SOP, 8-Leads, Body 2.9x1.6mm, Pitch 0.65mm, IPC High Density)
footprint RJ-8_M (SOP, 8-Leads, Body 2.9x1.6mm, Pitch 0.65mm, IPC Low Density)
pins: 1 SCL (in) "Digital Input. Serial bus clock. External pull-up resistor required.", 2 SDA (io) "Digital I/O. Serial bus bidirectional data. Open-drain output. External pull-up resistor required.", 3 VIN0 (in) "Analog Input 1. Single-ended analog input channel. The input range is 0 V to VREF.", 4 VIN1 (in) "Analog Input 2. Single-ended analog input channel. The input range is 0 V to VREF.", 5 VIN2 (in) "Analog Input 3. Single-ended analog input channel. The input range is 0 V to VREF.", 6 VIN3/VREF (in) "Analog Input 4. Single-ended analog input channel. The input range is 0 V to VREF. Can also be used to input an external VREF signal.", 7 GND (power) "Analog Ground. Ground reference point for all circuitry on the AD7991/AD7995/AD7999. All analog input signals should be referred to this AGND voltage.", 8 VDD (power) "Power Supply Input. The VDD range for the AD7991/AD7995/AD7999 is from 2.7 V to 5.5 V."

## AD7995YRJZ-0500RL7
designator U?
Quad 10-Bit Analog-to-Digital Converter with I2C, Serial 2-Wire Interface, 140KSPS, -40 to +125 degC, RJ-8, Pb-Free, Reel; Part Number: AD7995; Manufacturer: Analog Devices; Resolution (Bits): 10; Channels: 4; Throughput Rate (SPS): 140K; Interface: I2C/Ser 2-Wire; DatasheetVersion: Rev.B; PackageVersion: 121608-A; PackageReference: RJ-8; PackageDescription: 8-Lead Thin Small Outline Transistor Package [SOT-23]; RoHS: Y; Packing: Reel; Mounting Technology: Surface Mount; Code_JEDEC: MO-178-BA; ComponentLink1Description: Manufacturer URL; ComponentLink1URL: http://www.analog.com/en/index.html; ComponentLink2Description: Datasheet; ComponentLink2URL: http://www.analog.com/static/imported-files/data_sheets/AD7991_7995_7999.pdf; ComponentLink3Description: Package Specification; ComponentLink3URL: http://www.analog.com/static/imported-files/packages/PKG_PDF/SOT-23(RJ)/RJ_8.pdf; ComponentLink4Description: Product URL; ComponentLink4URL: http://www.analog.com/en/analog-to-digital-converters/ad-converters/ad7995/products/product.html
footprint RJ-8_N (SOP, 8-Leads, Body 2.9x1.6mm, Pitch 0.65mm, IPC Medium Density)
footprint RJ-8_L (SOP, 8-Leads, Body 2.9x1.6mm, Pitch 0.65mm, IPC High Density)
footprint RJ-8_M (SOP, 8-Leads, Body 2.9x1.6mm, Pitch 0.65mm, IPC Low Density)
pins: 1 SCL (in) "Digital Input. Serial bus clock. External pull-up resistor required.", 2 SDA (io) "Digital I/O. Serial bus bidirectional data. Open-drain output. External pull-up resistor required.", 3 VIN0 (in) "Analog Input 1. Single-ended analog input channel. The input range is 0 V to VREF.", 4 VIN1 (in) "Analog Input 2. Single-ended analog input channel. The input range is 0 V to VREF.", 5 VIN2 (in) "Analog Input 3. Single-ended analog input channel. The input range is 0 V to VREF.", 6 VIN3/VREF (in) "Analog Input 4. Single-ended analog input channel. The input range is 0 V to VREF. Can also be used to input an external VREF signal.", 7 GND (power) "Analog Ground. Ground reference point for all circuitry on the AD7991/AD7995/AD7999. All analog input signals should be referred to this AGND voltage.", 8 VDD (power) "Power Supply Input. The VDD range for the AD7991/AD7995/AD7999 is from 2.7 V to 5.5 V."

## AD7995YRJZ-1500RL7
designator U?
Quad 10-Bit Analog-to-Digital Converter with I2C, Serial 2-Wire Interface, 140KSPS, -40 to +125 degC, RJ-8, Pb-Free, Reel; Part Number: AD7995; Manufacturer: Analog Devices; Resolution (Bits): 10; Channels: 4; Throughput Rate (SPS): 140K; Interface: I2C/Ser 2-Wire; DatasheetVersion: Rev.B; PackageVersion: 121608-A; PackageReference: RJ-8; PackageDescription: 8-Lead Thin Small Outline Transistor Package [SOT-23]; RoHS: Y; Packing: Reel; Mounting Technology: Surface Mount; Code_JEDEC: MO-178-BA; ComponentLink1Description: Manufacturer URL; ComponentLink1URL: http://www.analog.com/en/index.html; ComponentLink2Description: Datasheet; ComponentLink2URL: http://www.analog.com/static/imported-files/data_sheets/AD7991_7995_7999.pdf; ComponentLink3Description: Package Specification; ComponentLink3URL: http://www.analog.com/static/imported-files/packages/PKG_PDF/SOT-23(RJ)/RJ_8.pdf; ComponentLink4Description: Product URL; ComponentLink4URL: http://www.analog.com/en/analog-to-digital-converters/ad-converters/ad7995/products/product.html
footprint RJ-8_N (SOP, 8-Leads, Body 2.9x1.6mm, Pitch 0.65mm, IPC Medium Density)
footprint RJ-8_L (SOP, 8-Leads, Body 2.9x1.6mm, Pitch 0.65mm, IPC High Density)
footprint RJ-8_M (SOP, 8-Leads, Body 2.9x1.6mm, Pitch 0.65mm, IPC Low Density)
pins: 1 SCL (in) "Digital Input. Serial bus clock. External pull-up resistor required.", 2 SDA (io) "Digital I/O. Serial bus bidirectional data. Open-drain output. External pull-up resistor required.", 3 VIN0 (in) "Analog Input 1. Single-ended analog input channel. The input range is 0 V to VREF.", 4 VIN1 (in) "Analog Input 2. Single-ended analog input channel. The input range is 0 V to VREF.", 5 VIN2 (in) "Analog Input 3. Single-ended analog input channel. The input range is 0 V to VREF.", 6 VIN3/VREF (in) "Analog Input 4. Single-ended analog input channel. The input range is 0 V to VREF. Can also be used to input an external VREF signal.", 7 GND (power) "Analog Ground. Ground reference point for all circuitry on the AD7991/AD7995/AD7999. All analog input signals should be referred to this AGND voltage.", 8 VDD (power) "Power Supply Input. The VDD range for the AD7991/AD7995/AD7999 is from 2.7 V to 5.5 V."

## AD7997BRU-0
designator U?
Octal 10-Bit Analog-to-Digital Converter with I2C / Serial 2-Wire, Serial Interface, 79KSPS, -40 to +85 degC, RU-20, Tube; Part Number: AD7997; Manufacturer: Analog Devices; Resolution (Bits): 10; Channels: 8; Throughput Rate (SPS): 79K; Interface: I2C/Ser 2-Wire, Ser; DatasheetVersion: Rev.0; PackageVersion: 2000; PackageReference: RU-20; PackageDescription: 20-Lead Thin Shrink Small Outline Package [TSSOP]; RoHS: N; Packing: Tube; Mounting Technology: Surface Mount; Code_JEDEC: MO-153AC; ComponentLink1Description: Manufacturer URL; ComponentLink1URL: http://www.analog.com/en/index.html; ComponentLink2Description: Datasheet; ComponentLink2URL: http://www.analog.com/static/imported-files/data_sheets/AD7997_7998.pdf; ComponentLink3Description: Package Specification; ComponentLink3URL: http://www.analog.com/static/imported-files/packages/364515793657813558433715854054607941441RU20.pdf; ComponentLink4Description: Product URL; ComponentLink4URL: http://www.analog.com/en/analog-to-digital-converters/ad-converters/ad7997/products/product.html
footprint RU-20_N (TSOP, 20-Leads, Body 6.5x4.4mm, Pitch 0.65mm, IPC Medium Density)
footprint RU-20_L (TSOP, 20-Leads, Body 6.5x4.4mm, Pitch 0.65mm, IPC High Density)
footprint RU-20_M (TSOP, 20-Leads, Body 6.5x4.4mm, Pitch 0.65mm, IPC Low Density)
pins: 1 AGND (power) "Analog Ground. Ground reference point for all circuitry on the AD7997/AD7998. All analog input signals should be referred to this AGND voltage.", 2 VDD (power) "Power Supply Input. The VDD range for the AD7997/AD7998 is from 2.7 V to 5.5 V.", 3 AGND (power) "Analog Ground. Ground reference point for all circuitry on the AD7997/AD7998. All analog input signals should be referred to this AGND voltage.", 4 AGND (power) "Analog Ground. Ground reference point for all circuitry on the AD7997/AD7998. All analog input signals should be referred to this AGND voltage.", 5 VDD (power) "Power Supply Input. The VDD range for the AD7997/AD7998 is from 2.7 V to 5.5 V.", 6 REFIN (in) "Voltage Reference Input. The external reference for the AD7997/AD7998 should be applied to this input pin. The voltage range for the external reference is 1.2 V to VDD. A 0.1 uF and 1 uF capacitors should be placed between (See Datasheet)", 7 VIN1 (in) "Analog Input 1. Single-ended analog input channel. The input range is 0 V to REFIN.", 8 VIN3 (in) "Analog Input 3. Single-ended analog input channel. The input range is 0 V to REFIN.", 9 VIN5 (in) "Analog Input 5. Single-ended analog input channel. The input range is 0 V to REFIN.", 10 VIN7 (in) "Analog Input 7. Single-ended analog input channel. The input range is 0 V to REFIN.", 11 VIN8 (in) "Analog Input 8. Single-ended analog input channel. The input range is 0 V to REFIN.", 12 VIN6 (in) "Analog Input 6. Single-ended analog input channel. The input range is 0 V to REFIN.", 13 VIN4 (in) "Analog Input 4. Single-ended analog input channel. The input range is 0 V to REFIN.", 14 VIN2 (in) "Analog Input 2. Single-ended analog input channel. The input range is 0 V to REFIN.", 15 AS (in) "Logic Input. Address select input that selects one of three I2C addresses for the AD7997/AD7998, as shown in Table 6. The device address depends on the voltage applied to this pin.", 16 ~{CONVST} (in) "Logic Input Signal. Convert start signal. This is an edge-triggered logic input. The rising edge of this signal powers up the part. The power-up time for the part is 1 us. The falling edge of C\O\N\V\S\T\ places the (See Datasheet)", 17 ALERT/BUSY (oc) "Digital Output. Selectable as an ALERT or BUSY output function. When configured as an ALERT, this pin acts as an out-of-range indicator and, if enabled, becomes active when the conversion result violates the DATAHIGH or (See Datasheet)", 18 SDA (io) "Digital I/O. Serial bus bidirectional data. Open-drain output. External pull-up resistor required.", 19 SCL (in) "Digital Input. Serial bus clock. Open-drain input. External pull-up resistor required.", 20 AGND (power) "Analog Ground. Ground reference point for all circuitry on the AD7997/AD7998. All analog input signals should be referred to this AGND voltage."